# Altium footprint library Trimmer Pot.PcbLib: 1 footprints
Each footprint in its own frame and in the unit in brackets; x right, y up, seen from the top. Pads: shape width x height; smd on the part's side, far side on the other; paste and mask are expansions set on the pad; w line width, h text height; cw(c..) or ccw(c..) is an arc to the next point about the centre after c.
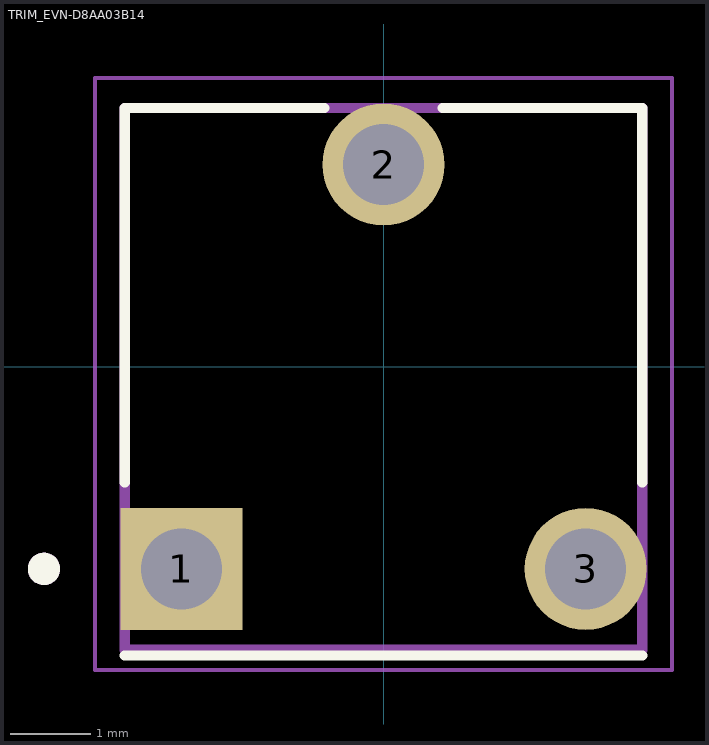
[diagram p0: the footprint, top view; thin cyan lines are the x and y axes]

## TRIM_EVN-D8AA03B14 [mm]
pads (3):
  rect 1.508x1.508 hole 1: 1(-2.5,-2.5)
  round 1.508 hole 1: 2(0,2.5) 3(2.5,-2.5)
Top Overlay:
  circle w0.2: c-4.2,-2.5 r0.1
  lines w0.127: -3.2,-3.57 3.2,-3.57 ; -3.2,-1.43 -3.2,3.2 -0.73,3.2 ; 0.73,3.2 3.2,3.2 3.2,-1.43
Mechanical 13:
  circle w0.2: c-4.2,-2.5 r0.1
  lines w0.127: -3.2,-3.5 -3.2,3.2 3.2,3.2 3.2,-3.5 -3.2,-3.5
Mechanical 15:
  lines w0.05: -3.57,-3.75 -3.57,3.57 3.57,3.57 3.57,-3.75 -3.57,-3.75
3D body "Trimmer Pot.STEP": height 7.62, standoff -3.04, extent -3.405,-4.876 3.405,3.375